# EAGLE library part SST39VF040B3 (library memory)
4 Mbit x8 Multi-Purpose Flash Source: http://www.sst.com/dotAsset/40782.pdf
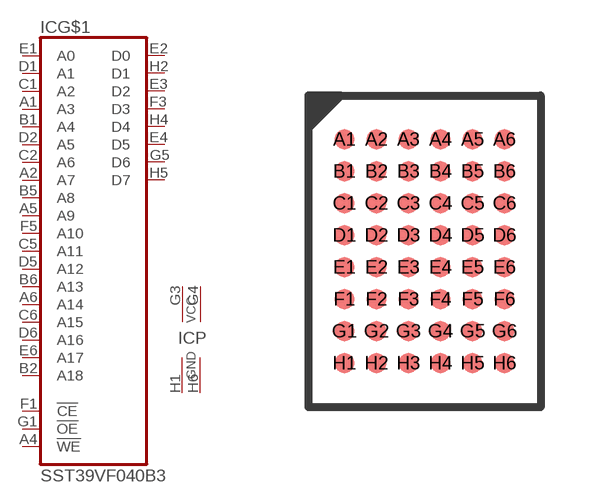
[diagram p71: symbol with the pads of TFBGA48; footprint TFBGA48]

Designator prefix IC; gates G$1=SST39VF040 P=PWRN2

## SST39VF040B3  [TFBGA48]
A1  G$1:A3  in
A2  G$1:A7  in
A4  G$1:!WE  in
A5  G$1:A9  in
A6  G$1:A14  in
B1  G$1:A4  in
B2  G$1:A18  in
B5  G$1:A8  in
B6  G$1:A13  in
C1  G$1:A2  in
C2  G$1:A6  in
C5  G$1:A11  in
C6  G$1:A15  in
D1  G$1:A1  in
D2  G$1:A5  in
D5  G$1:A12  in
D6  G$1:A16  in
E1  G$1:A0  in
E2  G$1:D0
E3  G$1:D2
E4  G$1:D5
E6  G$1:A17  in
F1  G$1:!CE  in
F3  G$1:D3
F5  G$1:A10  in
G1  G$1:!OE  in
G3  P:VCC  pwr
G4  P:VCC  pwr
G5  G$1:D6
H1  P:GND  pwr
H2  G$1:D1
H4  G$1:D4
H5  G$1:D7
H6  P:GND  pwr

## Footprint TFBGA48 (pad centres in mm)
48-ball Thin-profile, Fine-pitch Ball Grid Array (TFBGA) 6mm x 8mm SST Package Code: B3K Source: http://www.sst.com/dotAsset/40782.pdf
smd 0.5 x 0.5: A1 -2,2.8; A2 -1.2,2.8; A3 -0.4,2.8; A4 0.4,2.8; A5 1.2,2.8; A6 2,2.8; B1 -2,2; B2 -1.2,2; B3 -0.4,2; B4 0.4,2; B5 1.2,2; B6 2,2; C1 -2,1.2; C2 -1.2,1.2; C3 -0.4,1.2; C4 0.4,1.2; C5 1.2,1.2; C6 2,1.2; D1 -2,0.4; D2 -1.2,0.4; D3 -0.4,0.4; D4 0.4,0.4; D5 1.2,0.4; D6 2,0.4; E1 -2,-0.4; E2 -1.2,-0.4; E3 -0.4,-0.4; E4 0.4,-0.4; E5 1.2,-0.4; E6 2,-0.4; F1 -2,-1.2; F2 -1.2,-1.2; F3 -0.4,-1.2; F4 0.4,-1.2; F5 1.2,-1.2; F6 2,-1.2; G1 -2,-2; G2 -1.2,-2; G3 -0.4,-2; G4 0.4,-2; G5 1.2,-2; G6 2,-2; H1 -2,-2.8; H2 -1.2,-2.8; H3 -0.4,-2.8; H4 0.4,-2.8; H5 1.2,-2.8; H6 2,-2.8